# Altium schematic symbol library CustomSymbols.SchLib: 11 symbols
Pins are listed as number, name and electrical type; pins without a type are passive.

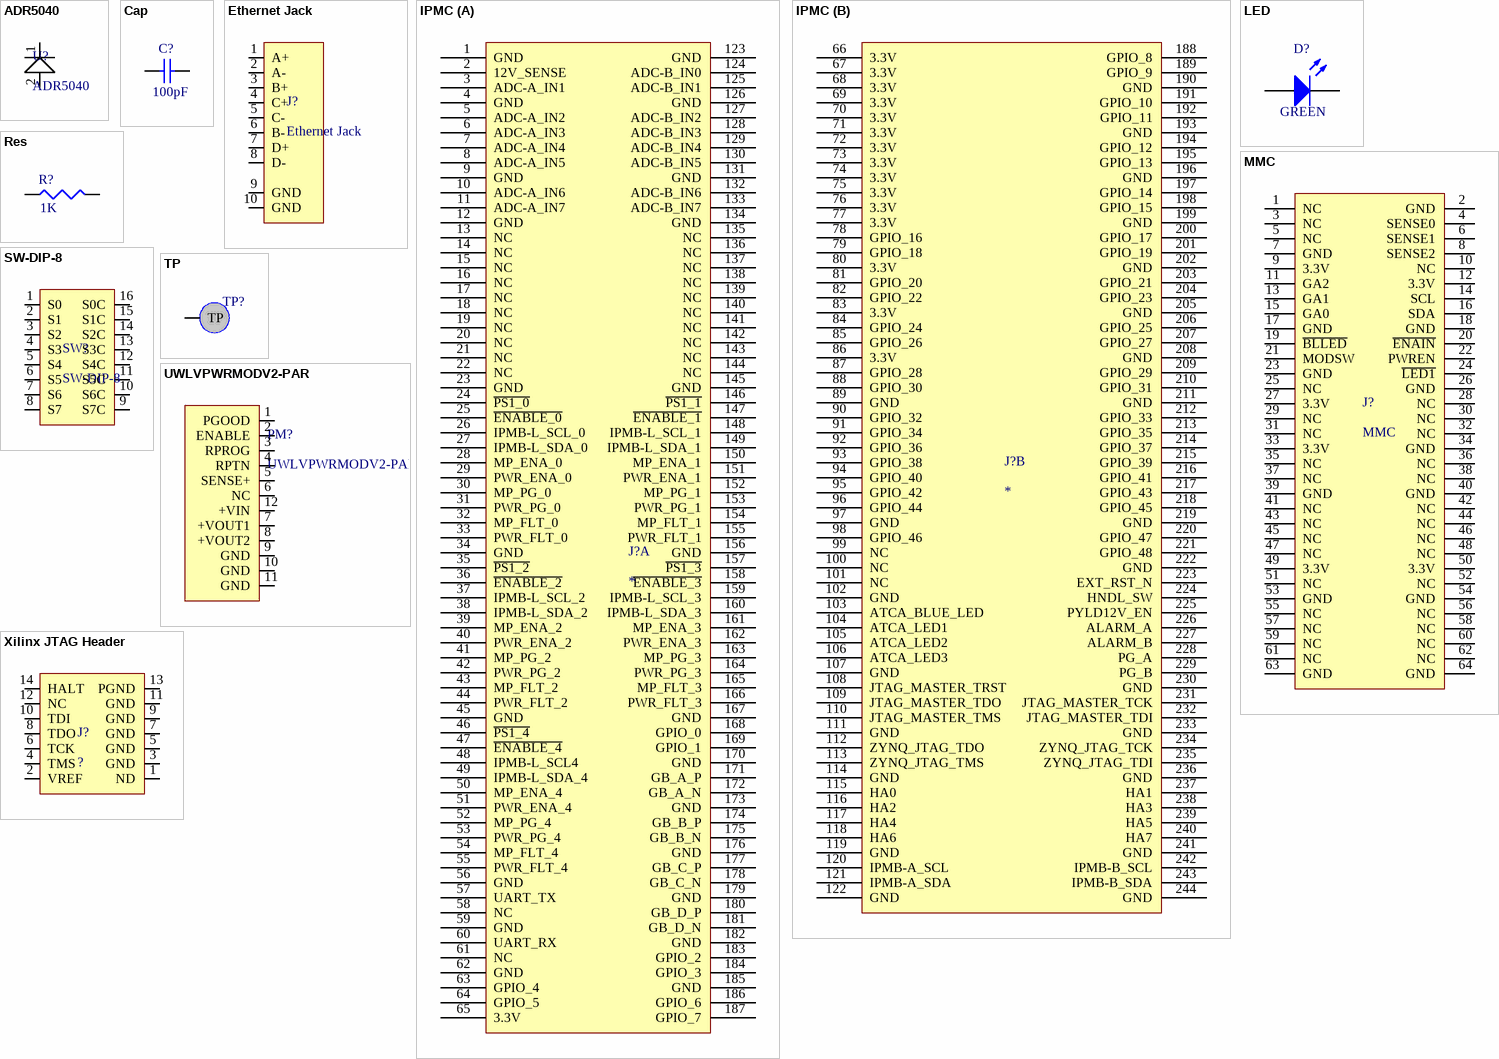
[diagram p0: symbols ADR5040 to Xilinx JTAG Header]

## ADR5040
designator U?
Precision Micropower Shunt Mode
footprint SOT23-H (SOT23, 3-Leads, Body 2.90x2.45mm, Pitch 0.95mm, IPC High Density)
pins: 1 V+, 2 V+

## Cap
designator C?, comment value 100pF  (hidden comment: ?)
Capacitor; Rating: 6.3V; PackageDescription: Chip Capacitor
footprint C0402_IPC_H (Chip Capacitor, 2-Leads, Body 1.00x0.50mm, IPC High Density)
footprint C1210_IPC_H (Chip Capacitor, 2-Leads, Body 3.20x2.50mm, IPC High Density)
pins: 1, 2

## Ethernet Jack
designator J?
RJ45 Ethernet Jack
footprint 43202-8916 (Molex 43202-8916)
pins: 1 A+, 2 A-, 3 B+, 4 C+, 5 C-, 6 B-, 7 D+, 8 D-, 9 GND, 10 GND

## IPMC
designator J?
Molex 87782-3009
footprint 87782-3007 (Molex 87782-3009)
part A pins: 1 GND, 2 12V_SENSE, 3 ADC-A_IN1, 4 GND, 5 ADC-A_IN2, 6 ADC-A_IN3, 7 ADC-A_IN4, 8 ADC-A_IN5, 9 GND, 10 ADC-A_IN6, 11 ADC-A_IN7, 12 GND, 13 NC, 14 NC, 15 NC, 16 NC, 17 NC, 18 NC, 19 NC, 20 NC, 21 NC, 22 NC, 23 GND, 24 ~{PS1_0}, 25 ~{ENABLE_0}, 26 IPMB-L_SCL_0, 27 IPMB-L_SDA_0, 28 MP_ENA_0, 29 PWR_ENA_0, 30 MP_PG_0, 31 PWR_PG_0, 32 MP_FLT_0, 33 PWR_FLT_0, 34 GND, 35 ~{PS1_2}, 36 ~{ENABLE_2}, 37 IPMB-L_SCL_2, 38 IPMB-L_SDA_2, 39 MP_ENA_2, 40 PWR_ENA_2, 41 MP_PG_2, 42 PWR_PG_2, 43 MP_FLT_2, 44 PWR_FLT_2, 45 GND, 46 ~{PS1_4}, 47 ~{ENABLE_4}, 48 IPMB-L_SCL4, 49 IPMB-L_SDA_4, 50 MP_ENA_4, 51 PWR_ENA_4, 52 MP_PG_4, 53 PWR_PG_4, 54 MP_FLT_4, 55 PWR_FLT_4, 56 GND, 57 UART_TX, 58 NC, 59 GND, 60 UART_RX, 61 NC, 62 GND, 63 GPIO_4, 64 GPIO_5, 65 3.3V, 123 GND, 124 ADC-B_IN0, 125 ADC-B_IN1, 126 GND, 127 ADC-B_IN2, 128 ADC-B_IN3, 129 ADC-B_IN4, 130 ADC-B_IN5, 131 GND, 132 ADC-B_IN6, 133 ADC-B_IN7, 134 GND, 135 NC, 136 NC, 137 NC, 138 NC, 139 NC, 140 NC, 141 NC, 142 NC, 143 NC, 144 NC, 145 GND, 146 ~{PS1_1}, 147 ~{ENABLE_1}, 148 IPMB-L_SCL_1, 149 IPMB-L_SDA_1, 150 MP_ENA_1, 151 PWR_ENA_1, 152 MP_PG_1, 153 PWR_PG_1, 154 MP_FLT_1, 155 PWR_FLT_1, 156 GND, 157 ~{PS1_3}, 158 ~{ENABLE_3}, 159 IPMB-L_SCL_3, 160 IPMB-L_SDA_3, 161 MP_ENA_3, 162 PWR_ENA_3, 163 MP_PG_3, 164 PWR_PG_3, 165 MP_FLT_3, 166 PWR_FLT_3, 167 GND, 168 GPIO_0, 169 GPIO_1, 170 GND, 171 GB_A_P, 172 GB_A_N, 173 GND, 174 GB_B_P, 175 GB_B_N, 176 GND, 177 GB_C_P, 178 GB_C_N, 179 GND, 180 GB_D_P, 181 GB_D_N, 182 GND, 183 GPIO_2, 184 GPIO_3, 185 GND, 186 GPIO_6, 187 GPIO_7
part B pins: 66 3.3V, 67 3.3V, 68 3.3V, 69 3.3V, 70 3.3V, 71 3.3V, 72 3.3V, 73 3.3V, 74 3.3V, 75 3.3V, 76 3.3V, 77 3.3V, 78 GPIO_16, 79 GPIO_18, 80 3.3V, 81 GPIO_20, 82 GPIO_22, 83 3.3V, 84 GPIO_24, 85 GPIO_26, 86 3.3V, 87 GPIO_28, 88 GPIO_30, 89 GND, 90 GPIO_32, 91 GPIO_34, 92 GPIO_36, 93 GPIO_38, 94 GPIO_40, 95 GPIO_42, 96 GPIO_44, 97 GND, 98 GPIO_46, 99 NC, 100 NC, 101 NC, 102 GND, 103 ATCA_BLUE_LED, 104 ATCA_LED1, 105 ATCA_LED2, 106 ATCA_LED3, 107 GND, 108 JTAG_MASTER_TRST, 109 JTAG_MASTER_TDO, 110 JTAG_MASTER_TMS, 111 GND, 112 ZYNQ_JTAG_TDO, 113 ZYNQ_JTAG_TMS, 114 GND, 115 HA0, 116 HA2, 117 HA4, 118 HA6, 119 GND, 120 IPMB-A_SCL, 121 IPMB-A_SDA, 122 GND, 188 GPIO_8, 189 GPIO_9, 190 GND, 191 GPIO_10, 192 GPIO_11, 193 GND, 194 GPIO_12, 195 GPIO_13, 196 GND, 197 GPIO_14, 198 GPIO_15, 199 GND, 200 GPIO_17, 201 GPIO_19, 202 GND, 203 GPIO_21, 204 GPIO_23, 205 GND, 206 GPIO_25, 207 GPIO_27, 208 GND, 209 GPIO_29, 210 GPIO_31, 211 GND, 212 GPIO_33, 213 GPIO_35, 214 GPIO_37, 215 GPIO_39, 216 GPIO_41, 217 GPIO_43, 218 GPIO_45, 219 GND, 220 GPIO_47, 221 GPIO_48, 222 GND, 223 EXT_RST_N, 224 HNDL_SW, 225 PYLD12V_EN, 226 ALARM_A, 227 ALARM_B, 228 PG_A, 229 PG_B, 230 GND, 231 JTAG_MASTER_TCK, 232 JTAG_MASTER_TDI, 233 GND, 234 ZYNQ_JTAG_TCK, 235 ZYNQ_JTAG_TDI, 236 GND, 237 HA1, 238 HA3, 239 HA5, 240 HA7, 241 GND, 242 IPMB-B_SCL, 243 IPMB-B_SDA, 244 GND

## LED
designator D?, comment GREEN
Light Emitting Diode; Value: GREEN
footprint LED0603_M (Chip LED, 2-Leads, Body 1.6x0.8mm, IPC Medium Density)
pins: 1 A, 2 K

## MMC
designator J?
TE 5120527-1
footprint 5120527-1 (TE 5120527-1)
pins: 1 NC, 2 GND (power), 3 NC, 4 SENSE0, 5 NC, 6 SENSE1, 7 GND (power), 8 SENSE2, 9 3.3V (power), 10 NC, 11 GA2, 12 3.3V (power), 13 GA1, 14 SCL, 15 GA0, 16 SDA, 17 GND (power), 18 GND (power), 19 ~{BLLED}, 20 ~{ENAIN}, 21 MODSW, 22 PWREN, 23 GND (power), 24 ~{LED1}, 25 NC, 26 GND (power), 27 3.3V (power), 28 NC, 29 NC, 30 NC, 31 NC, 32 NC, 33 3.3V (power), 34 GND (power), 35 NC, 36 NC, 37 NC, 38 NC, 39 GND (power), 40 GND (power), 41 NC, 42 NC, 43 NC, 44 NC, 45 NC, 46 NC, 47 NC, 48 NC, 49 3.3V (power), 50 3.3V (power), 51 NC, 52 NC, 53 GND (power), 54 GND (power), 55 NC, 56 NC, 57 NC, 58 NC, 59 NC, 60 NC, 61 NC, 62 NC, 63 GND (power), 64 GND (power)

## Res
designator R?, comment value 1K  (hidden comment: ?)
Resistor; Tolerance: 5%; PackageDescription: Chip Resistor
footprint R0201 (Chip Resistor, 2-Leads, Body 0.60x0.30mm, IPC Medium Density)
footprint R0402 (Chip Resistor, 2-Leads, Body 1.00x0.50mm, IPC Medium Density)
footprint R0603 (Chip Resistor, Body 1.6x0.8mm, IPC High Density)
pins: 1, 2

## SW-DIP-8
designator SW?
C&K TDA08H0SB1R
footprint TDA208H0 (C&K TDA208H0)
pins: 1 S0, 2 S1, 3 S2, 4 S3, 5 S4, 6 S5, 7 S6, 8 S7, 9 S7C, 10 S6C, 11 S5C, 12 S4C, 13 S3C, 14 S2C, 15 S1C, 16 S0C

## TP
designator TP?  (value not drawn)
Test Point
footprint TP (Test Point)
pins: 1 TP

## UWLVPWRMODV2-PAR
designator PM?
UW Low-voltage Power Module V2
footprint UWLVPWRMODV2 (UW Low-voltage Power Module V2)
pins: 1 PGOOD, 2 ENABLE, 3 RPROG, 4 RPTN, 5 SENSE+, 6 NC, 7 +VOUT1, 8 +VOUT2, 9 GND, 10 GND, 11 GND, 12 +VIN

## Xilinx JTAG Header
designator J?, comment ?
Molex 87832-1420
footprint 87832-1420 (Molex 87832-1420)
pins: 1 ND, 2 VREF, 3 GND, 4 TMS, 5 GND, 6 TCK, 7 GND, 8 TDO, 9 GND, 10 TDI, 11 GND, 12 NC, 13 PGND, 14 HALT